# EAGLE library part PCA9517 (library DSDEagleLibrary)
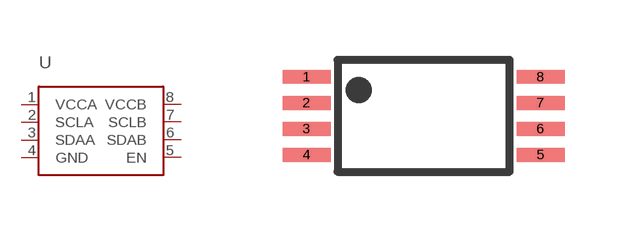
[diagram p66: symbol with the pads of TSSOP8; footprint TSSOP8]

Designator prefix -

## PCA9517  [TSSOP8]
1  VCCA
2  SCLA
3  SDAA
4  GND
5  EN
6  SDAB
7  SCLB
8  VCCB

## Footprint TSSOP8 (pad centres in mm)
TSSOP 8 pin type ST pitch 0.65mm pin width 1mm Body 2.5 x 6,4mm
smd 1.2 x 0.35: 1 -2.925,0.975; 2 -2.925,0.325; 3 -2.925,-0.325; 4 -2.925,-0.975; 5 2.925,-0.975; 6 2.925,-0.325; 7 2.925,0.325; 8 2.925,0.975